# Altium schematic symbol library kmilo17pet-TI_LDO_400_7500.SchLib: 1409 symbols (part 27 of 60)
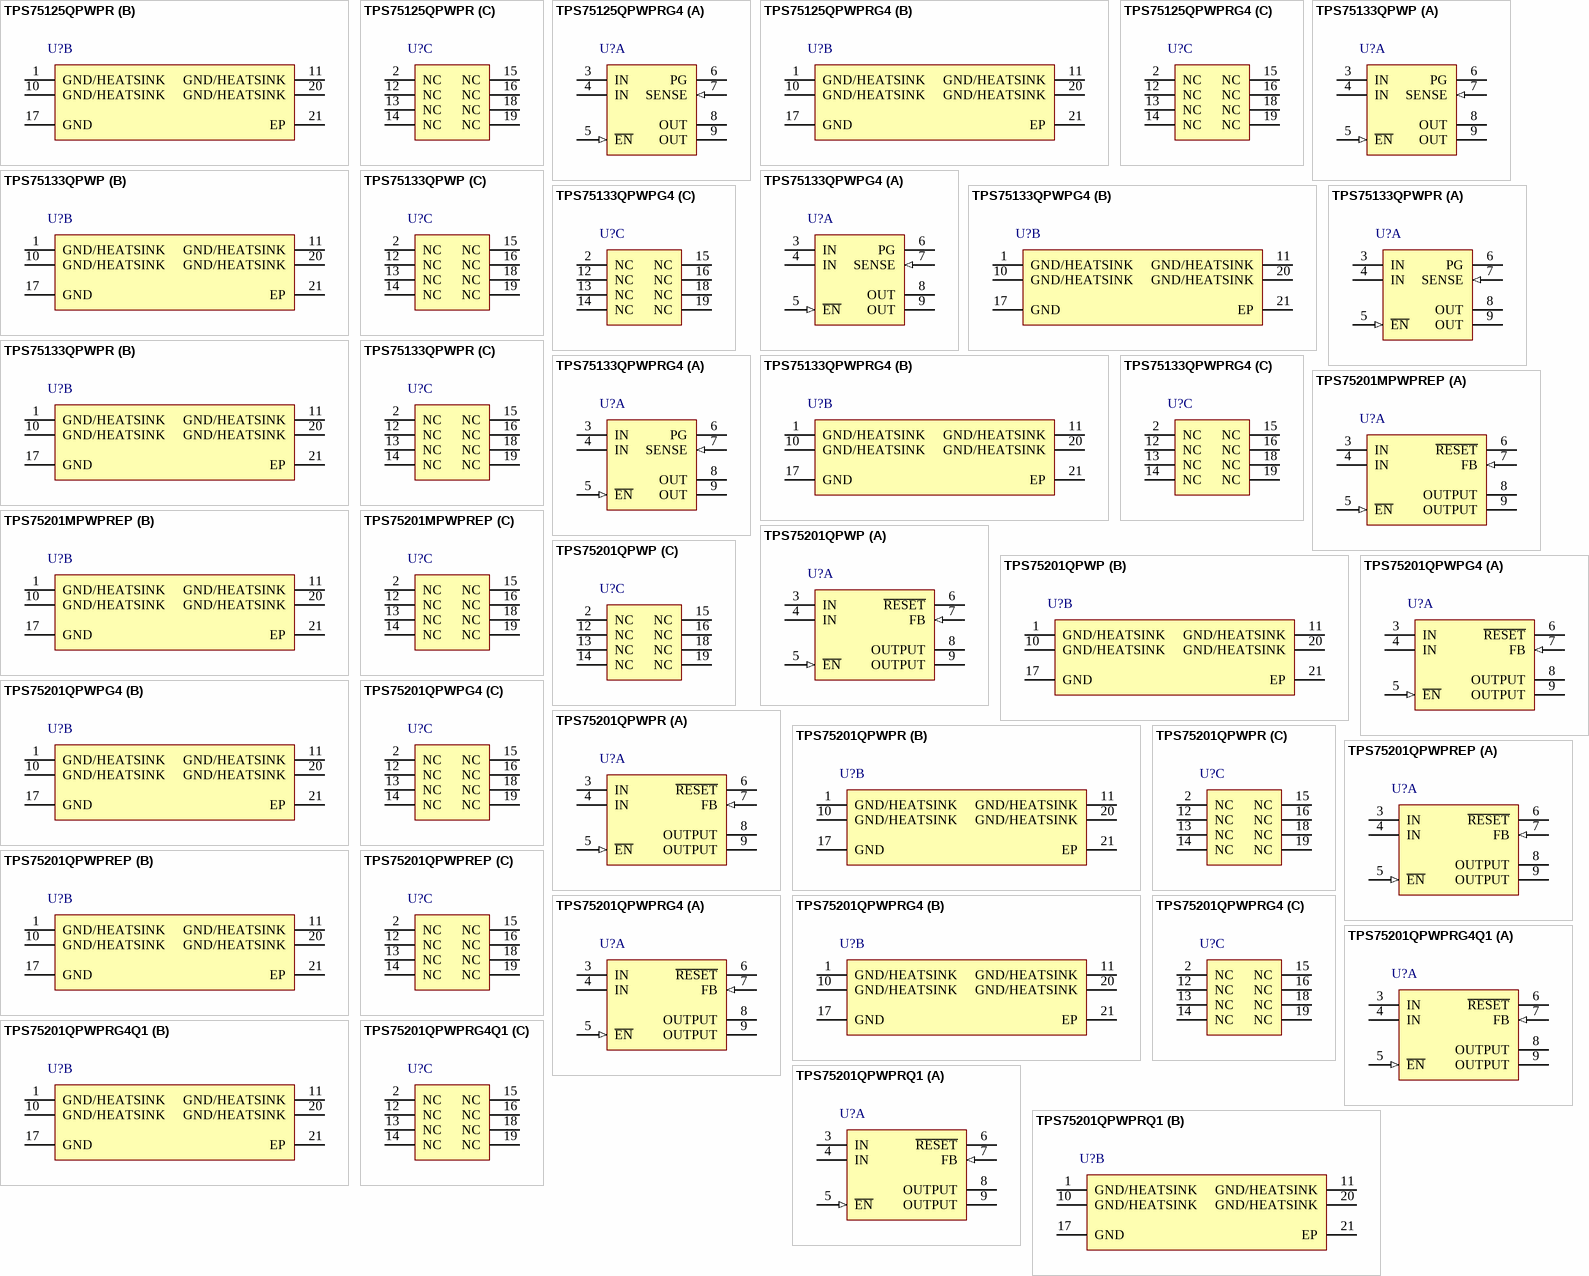
[diagram p76: symbols TPS75125QPWPR to TPS75201QPWPRQ1]

## TPS75201QPWP
designator U?
Single Output Fast Transient Response LDO, 2 A, Adjustable 1.5 to 5 V Output, 2.7 to 5.5 V Input, 20-pin HTSSOP (PWP), -40 to 125 degC, Green (RoHS & no Sb/Br); Manufacturer: Texas Instruments; PartNumber: TPS75201QPWP; Accuracy(%): 2; Iq(Typ)(mA): 0.07; SubFamily: Single Channel LDO; Vdo(Typ)(mV): 210; Vin(Max)(V): 5.5; Vin(Min)(V): 2.7; Vout Adj(Max)(V): 5; Vout Adj(Min)(V): 1.5; DatasheetVersion: SLVS242C; PackageVersion: 4073225-4/1; PackageReference: PWP20-2675X1950TP; PackageDescription: 20-Pin Plastic Small Outline, Body 4.4 x 6.5 mm, Pitch 0.65 mm; Supplier 1: Digi-Key; Supplier Part Number 1: 296-2678-5-ND; Supplier 2: Farnell; Supplier Part Number 2: 1135441; Supplier 3: Newark; Supplier Part Number 3: 93K0914; Supplier 4: Newark; Supplier Part Number 4: 77C0906; Supplier 5: Mouser; Supplier Part Number 5: 595-TPS75201QPWP; Eco-Plan: Green (RoHS & no Sb/Br); Iout(Max)(A): 2; Mounting Technology: Surface Mount; Code_JEDEC: MO-153; ComponentLink1Description: Manufacturer URL; ComponentLink1URL: http://www.ti.com/; ComponentLink2Description: Datasheet; ComponentLink2URL: http://www.ti.com/general/docs/lit/getliterature.tsp?genericPartNumber=TPS75201&fileType=pdf; ComponentLink3Description: Package Specification; ComponentLink3URL: http://www.ti.com/litv/pdf/mhts001g
footprint TI-PWP20-2675X1950TP_N (SOP, 20-Leads, Body 6.5x4.4mm, Pitch 1.27mm, Thermal Pad 2.675x1.95 mm, IPC Medium Density)
footprint TI-PWP20-2675X1950TP_L (SOP, 20-Leads, Body 6.5x4.4mm, Pitch 1.27mm, Thermal Pad 2.675x1.95 mm, IPC High Density)
footprint TI-PWP20-2675X1950TP_M (SOP, 20-Leads, Body 6.5x4.4mm, Pitch 1.27mm, Thermal Pad 2.675x1.95 mm, IPC Low Density)
part A pins: 3 IN (power) "Input voltage", 4 IN (power) "Input voltage", 5 ~{EN} (in) "Enable Input", 6 ~{RESET} (hiz) "R\e\s\e\t\ output", 7 FB (in) "Feedback input voltage for adjustable device", 8 OUTPUT (power) "Regulated output voltage", 9 OUTPUT (power) "Regulated output voltage"
part B pins: 1 GND/HEATSINK (power) "Ground/heatsink", 10 GND/HEATSINK (power) "Ground/heatsink", 11 GND/HEATSINK (power) "Ground/heatsink", 17 GND (power) "Regulator Ground", 20 GND/HEATSINK (power) "Ground/heatsink", 21 EP "Exposed Thermal Pad"
part C pins: 2 NC "Not connected", 12 NC "Not connected", 13 NC "Not connected", 14 NC "Not connected", 15 NC "Not connected", 16 NC "Not connected", 18 NC "Not connected", 19 NC "Not connected"

## TPS75201QPWPG4
designator U?
Single Output Fast Transient Response LDO, 2 A, Adjustable 1.5 to 5 V Output, 2.7 to 5.5 V Input, 20-pin HTSSOP (PWP), -40 to 125 degC, Green (RoHS & no Sb/Br); Manufacturer: Texas Instruments; PartNumber: TPS75201QPWPG4; Accuracy(%): 2; Iq(Typ)(mA): 0.07; SubFamily: Single Channel LDO; Vdo(Typ)(mV): 210; Vin(Max)(V): 5.5; Vin(Min)(V): 2.7; Vout Adj(Max)(V): 5; Vout Adj(Min)(V): 1.5; DatasheetVersion: SLVS242C; PackageVersion: 4073225-4/1; PackageReference: PWP20-2675X1950TP; PackageDescription: 20-Pin Plastic Small Outline, Body 4.4 x 6.5 mm, Pitch 0.65 mm; Supplier 1: Digi-Key; Supplier Part Number 1: TPS75201QPWPG4-ND; Supplier 2: Newark; Supplier Part Number 2: 33K7718; Supplier 3: Mouser; Supplier Part Number 3: 595-TPS75201QPWPG4; Eco-Plan: Green (RoHS & no Sb/Br); Iout(Max)(A): 2; Mounting Technology: Surface Mount; Code_JEDEC: MO-153; ComponentLink1Description: Manufacturer URL; ComponentLink1URL: http://www.ti.com/; ComponentLink2Description: Datasheet; ComponentLink2URL: http://www.ti.com/general/docs/lit/getliterature.tsp?genericPartNumber=TPS75201&fileType=pdf; ComponentLink3Description: Package Specification; ComponentLink3URL: http://www.ti.com/litv/pdf/mhts001g
footprint TI-PWP20-2675X1950TP_N (SOP, 20-Leads, Body 6.5x4.4mm, Pitch 1.27mm, Thermal Pad 2.675x1.95 mm, IPC Medium Density)
footprint TI-PWP20-2675X1950TP_L (SOP, 20-Leads, Body 6.5x4.4mm, Pitch 1.27mm, Thermal Pad 2.675x1.95 mm, IPC High Density)
footprint TI-PWP20-2675X1950TP_M (SOP, 20-Leads, Body 6.5x4.4mm, Pitch 1.27mm, Thermal Pad 2.675x1.95 mm, IPC Low Density)
part A pins: 3 IN (power) "Input voltage", 4 IN (power) "Input voltage", 5 ~{EN} (in) "Enable Input", 6 ~{RESET} (hiz) "R\e\s\e\t\ output", 7 FB (in) "Feedback input voltage for adjustable device", 8 OUTPUT (power) "Regulated output voltage", 9 OUTPUT (power) "Regulated output voltage"
part B pins: 1 GND/HEATSINK (power) "Ground/heatsink", 10 GND/HEATSINK (power) "Ground/heatsink", 11 GND/HEATSINK (power) "Ground/heatsink", 17 GND (power) "Regulator Ground", 20 GND/HEATSINK (power) "Ground/heatsink", 21 EP "Exposed Thermal Pad"
part C pins: 2 NC "Not connected", 12 NC "Not connected", 13 NC "Not connected", 14 NC "Not connected", 15 NC "Not connected", 16 NC "Not connected", 18 NC "Not connected", 19 NC "Not connected"

## TPS75201QPWPR
designator U?
Single Output Fast Transient Response LDO, 2 A, Adjustable 1.5 to 5 V Output, 2.7 to 5.5 V Input, 20-pin HTSSOP (PWP), -40 to 125 degC, Green (RoHS & no Sb/Br); Manufacturer: Texas Instruments; PartNumber: TPS75201QPWPR; Accuracy(%): 2; Iq(Typ)(mA): 0.07; SubFamily: Single Channel LDO; Vdo(Typ)(mV): 210; Vin(Max)(V): 5.5; Vin(Min)(V): 2.7; Vout Adj(Max)(V): 5; Vout Adj(Min)(V): 1.5; DatasheetVersion: SLVS242C; PackageVersion: 4073225-4/1; PackageReference: PWP20-2675X1950TP; PackageDescription: 20-Pin Plastic Small Outline, Body 4.4 x 6.5 mm, Pitch 0.65 mm; Supplier 1: Digi-Key; Supplier Part Number 1: TPS75201QPWPR-ND; Supplier 2: Mouser; Supplier Part Number 2: 595-TPS75201QPWPR; Eco-Plan: Green (RoHS & no Sb/Br); Iout(Max)(A): 2; Mounting Technology: Surface Mount; Code_JEDEC: MO-153; ComponentLink1Description: Manufacturer URL; ComponentLink1URL: http://www.ti.com/; ComponentLink2Description: Datasheet; ComponentLink2URL: http://www.ti.com/general/docs/lit/getliterature.tsp?genericPartNumber=TPS75201&fileType=pdf; ComponentLink3Description: Package Specification; ComponentLink3URL: http://www.ti.com/litv/pdf/mhts001g
footprint TI-PWP20-2675X1950TP_N (SOP, 20-Leads, Body 6.5x4.4mm, Pitch 1.27mm, Thermal Pad 2.675x1.95 mm, IPC Medium Density)
footprint TI-PWP20-2675X1950TP_L (SOP, 20-Leads, Body 6.5x4.4mm, Pitch 1.27mm, Thermal Pad 2.675x1.95 mm, IPC High Density)
footprint TI-PWP20-2675X1950TP_M (SOP, 20-Leads, Body 6.5x4.4mm, Pitch 1.27mm, Thermal Pad 2.675x1.95 mm, IPC Low Density)
part A pins: 3 IN (power) "Input voltage", 4 IN (power) "Input voltage", 5 ~{EN} (in) "Enable Input", 6 ~{RESET} (hiz) "R\e\s\e\t\ output", 7 FB (in) "Feedback input voltage for adjustable device", 8 OUTPUT (power) "Regulated output voltage", 9 OUTPUT (power) "Regulated output voltage"
part B pins: 1 GND/HEATSINK (power) "Ground/heatsink", 10 GND/HEATSINK (power) "Ground/heatsink", 11 GND/HEATSINK (power) "Ground/heatsink", 17 GND (power) "Regulator Ground", 20 GND/HEATSINK (power) "Ground/heatsink", 21 EP "Exposed Thermal Pad"
part C pins: 2 NC "Not connected", 12 NC "Not connected", 13 NC "Not connected", 14 NC "Not connected", 15 NC "Not connected", 16 NC "Not connected", 18 NC "Not connected", 19 NC "Not connected"

## TPS75201QPWPREP
designator U?
Single Output Fast Transient Response LDO, 2 A, Adjustable 1.5 to 5 V Output, 2.7 to 5.5 V Input, 20-pin HTSSOP (PWP), -40 to 125 degC, Green (RoHS & no Sb/Br); Manufacturer: Texas Instruments; PartNumber: TPS75201QPWPREP; Accuracy(%): 2; Iq(Typ)(mA): 0.07; SubFamily: Single Channel LDO; Vdo(Typ)(mV): 210; Vin(Max)(V): 5.5; Vin(Min)(V): 2.7; Vout Adj(Max)(V): 5; Vout Adj(Min)(V): 1.5; DatasheetVersion: SGLS165; PackageVersion: 4073225-4/1; PackageReference: PWP20-2675X1950TP; PackageDescription: 20-Pin Plastic Small Outline, Body 4.4 x 6.5 mm, Pitch 0.65 mm; Supplier 1: Digi-Key; Supplier Part Number 1: 296-22503-2-ND; Supplier 2: Digi-Key; Supplier Part Number 2: 296-22503-1-ND; Supplier 3: Digi-Key; Supplier Part Number 3: 296-22503-6-ND; Supplier 4: Newark; Supplier Part Number 4: 46M1163; Supplier 5: Mouser; Supplier Part Number 5: 595-TPS75201QPWPREP; Eco-Plan: Green (RoHS & no Sb/Br); Iout(Max)(A): 2; Mounting Technology: Surface Mount; Code_JEDEC: MO-153; ComponentLink1Description: Manufacturer URL; ComponentLink1URL: http://www.ti.com/; ComponentLink2Description: Datasheet; ComponentLink2URL: http://www.ti.com/general/docs/lit/getliterature.tsp?genericPartNumber=TPS75201-EP&fileType=pdf; ComponentLink3Description: Package Specification; ComponentLink3URL: http://www.ti.com/litv/pdf/mhts001g
footprint TI-PWP20-2675X1950TP_N (SOP, 20-Leads, Body 6.5x4.4mm, Pitch 1.27mm, Thermal Pad 2.675x1.95 mm, IPC Medium Density)
footprint TI-PWP20-2675X1950TP_L (SOP, 20-Leads, Body 6.5x4.4mm, Pitch 1.27mm, Thermal Pad 2.675x1.95 mm, IPC High Density)
footprint TI-PWP20-2675X1950TP_M (SOP, 20-Leads, Body 6.5x4.4mm, Pitch 1.27mm, Thermal Pad 2.675x1.95 mm, IPC Low Density)
part A pins: 3 IN (power) "Input voltage", 4 IN (power) "Input voltage", 5 ~{EN} (in) "Enable Input", 6 ~{RESET} (hiz) "R\e\s\e\t\ output", 7 FB (in) "Feedback input voltage for adjustable device", 8 OUTPUT (power) "Regulated output voltage", 9 OUTPUT (power) "Regulated output voltage"
part B pins: 1 GND/HEATSINK (power) "Ground/heatsink", 10 GND/HEATSINK (power) "Ground/heatsink", 11 GND/HEATSINK (power) "Ground/heatsink", 17 GND (power) "Regulator Ground", 20 GND/HEATSINK (power) "Ground/heatsink", 21 EP "Exposed Thermal Pad"
part C pins: 2 NC "Not connected", 12 NC "Not connected", 13 NC "Not connected", 14 NC "Not connected", 15 NC "Not connected", 16 NC "Not connected", 18 NC "Not connected", 19 NC "Not connected"

## TPS75201QPWPRG4
designator U?
Single Output Fast Transient Response LDO, 2 A, Adjustable 1.5 to 5 V Output, 2.7 to 5.5 V Input, 20-pin HTSSOP (PWP), -40 to 125 degC, Green (RoHS & no Sb/Br); Manufacturer: Texas Instruments; PartNumber: TPS75201QPWPRG4; Accuracy(%): 2; Iq(Typ)(mA): 0.07; SubFamily: Single Channel LDO; Vdo(Typ)(mV): 210; Vin(Max)(V): 5.5; Vin(Min)(V): 2.7; Vout Adj(Max)(V): 5; Vout Adj(Min)(V): 1.5; DatasheetVersion: SLVS242C; PackageVersion: 4073225-4/1; PackageReference: PWP20-2675X1950TP; PackageDescription: 20-Pin Plastic Small Outline, Body 4.4 x 6.5 mm, Pitch 0.65 mm; Supplier 1: Digi-Key; Supplier Part Number 1: TPS75201QPWPRG4-ND; Supplier 2: Mouser; Supplier Part Number 2: 595-TPS75201QPWPRG4; Eco-Plan: Green (RoHS & no Sb/Br); Iout(Max)(A): 2; Mounting Technology: Surface Mount; Code_JEDEC: MO-153; ComponentLink1Description: Manufacturer URL; ComponentLink1URL: http://www.ti.com/; ComponentLink2Description: Datasheet; ComponentLink2URL: http://www.ti.com/general/docs/lit/getliterature.tsp?genericPartNumber=TPS75201&fileType=pdf; ComponentLink3Description: Package Specification; ComponentLink3URL: http://www.ti.com/litv/pdf/mhts001g
footprint TI-PWP20-2675X1950TP_N (SOP, 20-Leads, Body 6.5x4.4mm, Pitch 1.27mm, Thermal Pad 2.675x1.95 mm, IPC Medium Density)
footprint TI-PWP20-2675X1950TP_L (SOP, 20-Leads, Body 6.5x4.4mm, Pitch 1.27mm, Thermal Pad 2.675x1.95 mm, IPC High Density)
footprint TI-PWP20-2675X1950TP_M (SOP, 20-Leads, Body 6.5x4.4mm, Pitch 1.27mm, Thermal Pad 2.675x1.95 mm, IPC Low Density)
part A pins: 3 IN (power) "Input voltage", 4 IN (power) "Input voltage", 5 ~{EN} (in) "Enable Input", 6 ~{RESET} (hiz) "R\e\s\e\t\ output", 7 FB (in) "Feedback input voltage for adjustable device", 8 OUTPUT (power) "Regulated output voltage", 9 OUTPUT (power) "Regulated output voltage"
part B pins: 1 GND/HEATSINK (power) "Ground/heatsink", 10 GND/HEATSINK (power) "Ground/heatsink", 11 GND/HEATSINK (power) "Ground/heatsink", 17 GND (power) "Regulator Ground", 20 GND/HEATSINK (power) "Ground/heatsink", 21 EP "Exposed Thermal Pad"
part C pins: 2 NC "Not connected", 12 NC "Not connected", 13 NC "Not connected", 14 NC "Not connected", 15 NC "Not connected", 16 NC "Not connected", 18 NC "Not connected", 19 NC "Not connected"

## TPS75201QPWPRG4Q1
designator U?
Single Output Fast Transient Response LDO, 2 A, Adjustable 1.5 to 5 V Output, 2.7 to 5.5 V Input, 20-pin HTSSOP (PWP), -40 to 125 degC, Green (RoHS & no Sb/Br); Manufacturer: Texas Instruments; PartNumber: TPS75201QPWPRG4Q1; Accuracy(%): 2; Iq(Typ)(mA): 0.07; SubFamily: Single Channel LDO; Vdo(Typ)(mV): 210; Vin(Max)(V): 5.5; Vin(Min)(V): 2.7; Vout Adj(Max)(V): 5; Vout Adj(Min)(V): 1.5; DatasheetVersion: SGLS166C; PackageVersion: 4073225-4/1; PackageReference: PWP20-2675X1950TP; PackageDescription: 20-Pin Plastic Small Outline, Body 4.4 x 6.5 mm, Pitch 0.65 mm; Supplier 1: Digi-Key; Supplier Part Number 1: TPS75201QPWPRG4Q1-ND; Supplier 2: Mouser; Supplier Part Number 2: 595-PS75201QPWPRG4Q1; Eco-Plan: Green (RoHS & no Sb/Br); Iout(Max)(A): 2; Mounting Technology: Surface Mount; Code_JEDEC: MO-153; ComponentLink1Description: Manufacturer URL; ComponentLink1URL: http://www.ti.com/; ComponentLink2Description: Datasheet; ComponentLink2URL: http://www.ti.com/general/docs/lit/getliterature.tsp?genericPartNumber=TPS75201-Q1&fileType=pdf; ComponentLink3Description: Package Specification; ComponentLink3URL: http://www.ti.com/litv/pdf/mhts001g
footprint TI-PWP20-2675X1950TP_N (SOP, 20-Leads, Body 6.5x4.4mm, Pitch 1.27mm, Thermal Pad 2.675x1.95 mm, IPC Medium Density)
footprint TI-PWP20-2675X1950TP_L (SOP, 20-Leads, Body 6.5x4.4mm, Pitch 1.27mm, Thermal Pad 2.675x1.95 mm, IPC High Density)
footprint TI-PWP20-2675X1950TP_M (SOP, 20-Leads, Body 6.5x4.4mm, Pitch 1.27mm, Thermal Pad 2.675x1.95 mm, IPC Low Density)
part A pins: 3 IN (power) "Input voltage", 4 IN (power) "Input voltage", 5 ~{EN} (in) "Enable Input", 6 ~{RESET} (hiz) "R\e\s\e\t\ output", 7 FB (in) "Feedback input voltage for adjustable device", 8 OUTPUT (power) "Regulated output voltage", 9 OUTPUT (power) "Regulated output voltage"
part B pins: 1 GND/HEATSINK (power) "Ground/heatsink", 10 GND/HEATSINK (power) "Ground/heatsink", 11 GND/HEATSINK (power) "Ground/heatsink", 17 GND (power) "Regulator Ground", 20 GND/HEATSINK (power) "Ground/heatsink", 21 EP (power) "Exposed Thermal Pad"
part C pins: 2 NC "Not connected", 12 NC "Not connected", 13 NC "Not connected", 14 NC "Not connected", 15 NC "Not connected", 16 NC "Not connected", 18 NC "Not connected", 19 NC "Not connected"

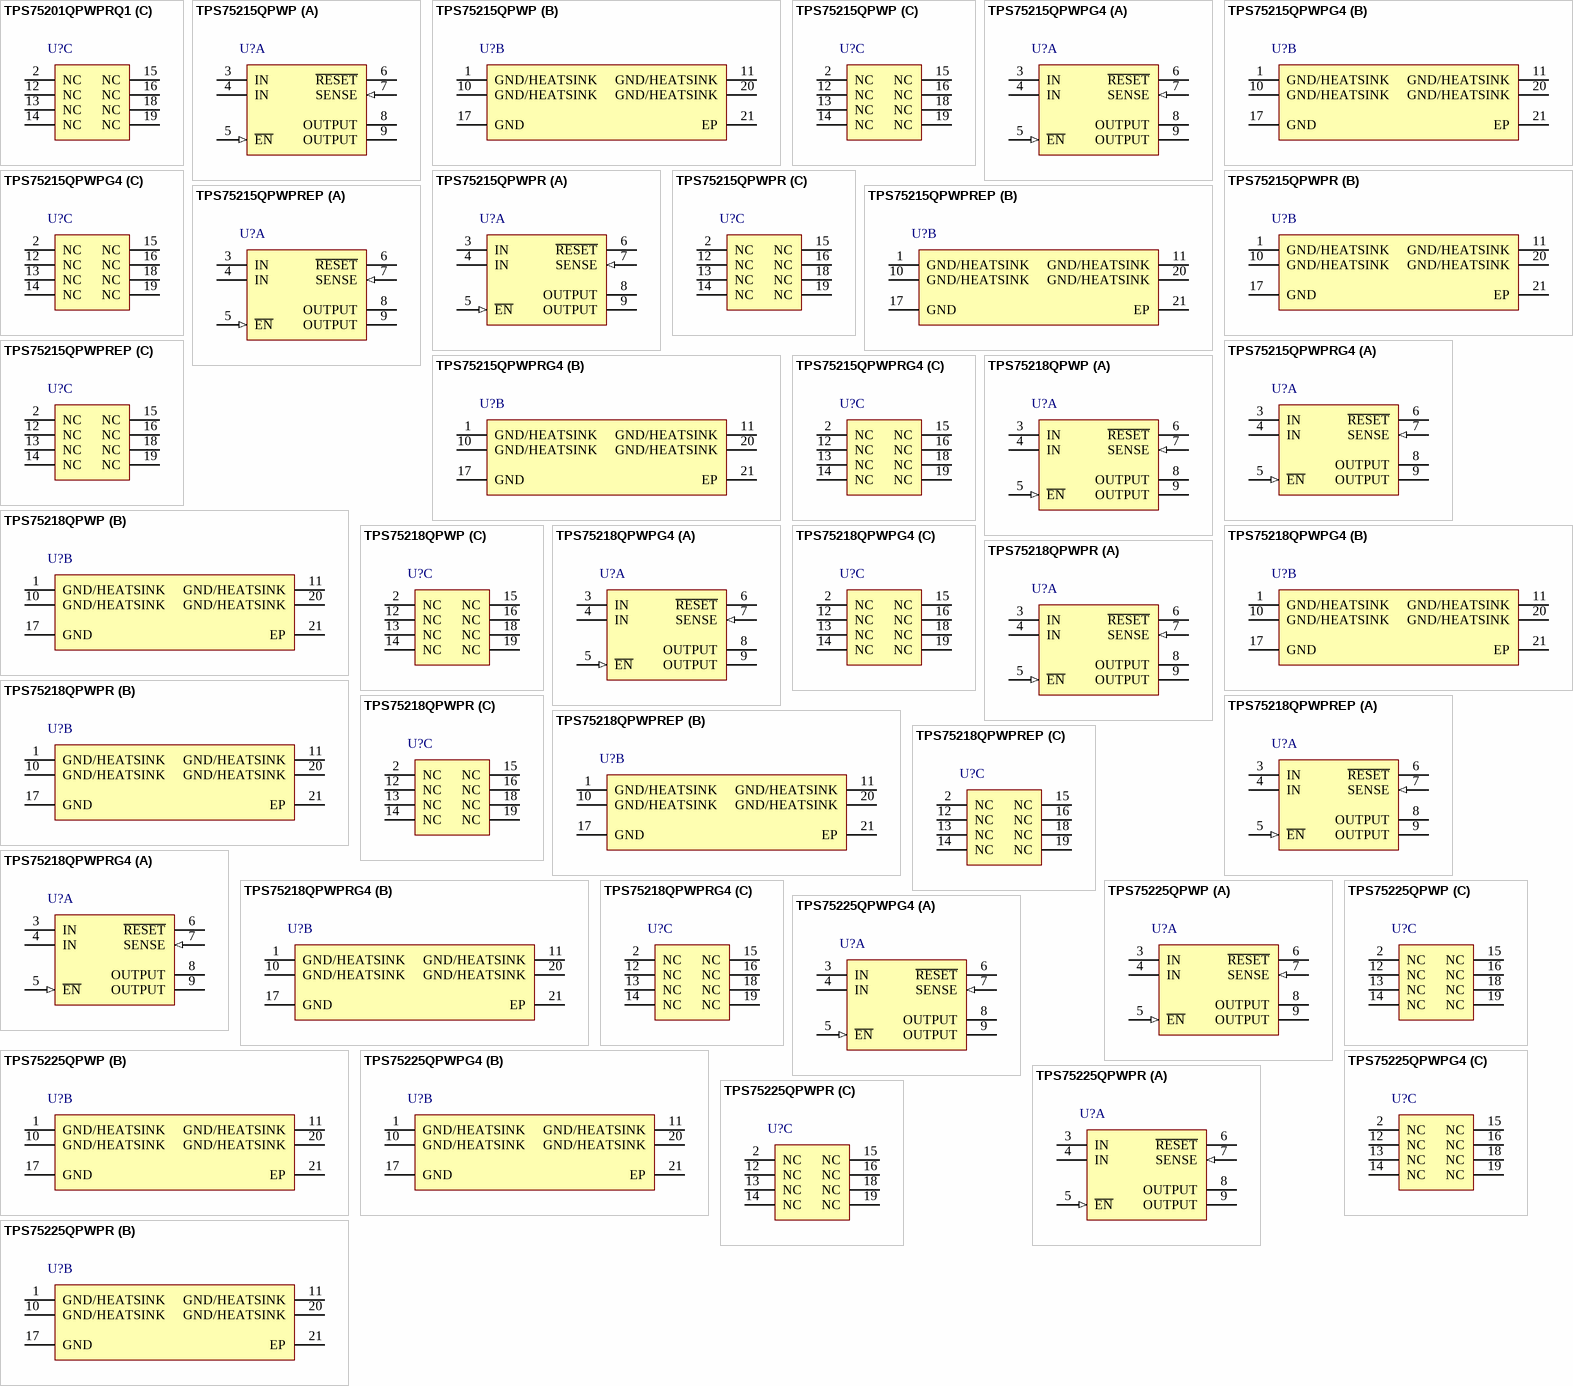
[diagram p19: symbols TPS75201QPWPRQ1 to TPS75225QPWPR]

## TPS75201QPWPRQ1
designator U?
Single Output Fast Transient Response LDO, 2 A, Adjustable 1.5 to 5 V Output, 2.7 to 5.5 V Input, 20-pin HTSSOP (PWP), -40 to 125 degC, Green (RoHS & no Sb/Br); Manufacturer: Texas Instruments; PartNumber: TPS75201QPWPRQ1; Accuracy(%): 2; Iq(Typ)(mA): 0.07; SubFamily: Single Channel LDO; Vdo(Typ)(mV): 210; Vin(Max)(V): 5.5; Vin(Min)(V): 2.7; Vout Adj(Max)(V): 5; Vout Adj(Min)(V): 1.5; DatasheetVersion: SGLS166C; PackageVersion: 4073225-4/1; PackageReference: PWP20-2675X1950TP; PackageDescription: 20-Pin Plastic Small Outline, Body 4.4 x 6.5 mm, Pitch 0.65 mm; Supplier 1: Digi-Key; Supplier Part Number 1: 296-15278-2-ND; Supplier 2: Mouser; Supplier Part Number 2: 595-TPS75201QPWPRQ1; Eco-Plan: Green (RoHS & no Sb/Br); Iout(Max)(A): 2; Mounting Technology: Surface Mount; Code_JEDEC: MO-153; ComponentLink1Description: Manufacturer URL; ComponentLink1URL: http://www.ti.com/; ComponentLink2Description: Datasheet; ComponentLink2URL: http://www.ti.com/general/docs/lit/getliterature.tsp?genericPartNumber=TPS75201-Q1&fileType=pdf; ComponentLink3Description: Package Specification; ComponentLink3URL: http://www.ti.com/litv/pdf/mhts001g
footprint TI-PWP20-2675X1950TP_N (SOP, 20-Leads, Body 6.5x4.4mm, Pitch 1.27mm, Thermal Pad 2.675x1.95 mm, IPC Medium Density)
footprint TI-PWP20-2675X1950TP_L (SOP, 20-Leads, Body 6.5x4.4mm, Pitch 1.27mm, Thermal Pad 2.675x1.95 mm, IPC High Density)
footprint TI-PWP20-2675X1950TP_M (SOP, 20-Leads, Body 6.5x4.4mm, Pitch 1.27mm, Thermal Pad 2.675x1.95 mm, IPC Low Density)
part A pins: 3 IN (power) "Input voltage", 4 IN (power) "Input voltage", 5 ~{EN} (in) "Enable Input", 6 ~{RESET} (hiz) "R\e\s\e\t\ output", 7 FB (in) "Feedback input voltage for adjustable device", 8 OUTPUT (power) "Regulated output voltage", 9 OUTPUT (power) "Regulated output voltage"
part B pins: 1 GND/HEATSINK (power) "Ground/heatsink", 10 GND/HEATSINK (power) "Ground/heatsink", 11 GND/HEATSINK (power) "Ground/heatsink", 17 GND (power) "Regulator Ground", 20 GND/HEATSINK (power) "Ground/heatsink", 21 EP (power) "Exposed Thermal Pad"
part C pins: 2 NC "Not connected", 12 NC "Not connected", 13 NC "Not connected", 14 NC "Not connected", 15 NC "Not connected", 16 NC "Not connected", 18 NC "Not connected", 19 NC "Not connected"

## TPS75215QPWP
designator U?
Single Output Fast Transient Response LDO, 2 A, Fixed 1.5 V Output, 2.7 to 5.5 V Input, 20-pin HTSSOP (PWP), -40 to 125 degC, Green (RoHS & no Sb/Br); Manufacturer: Texas Instruments; PartNumber: TPS75215QPWP; Accuracy(%): 2; Fixed Output Options(V): 1.5; Iq(Typ)(mA): 0.07; SubFamily: Single Channel LDO; Vdo(Typ)(mV): 210; Vin(Max)(V): 5.5; Vin(Min)(V): 2.7; DatasheetVersion: SLVS242C; PackageVersion: 4073225-4/1; PackageReference: PWP20-2675X1950TP; PackageDescription: 20-Pin Plastic Small Outline, Body 4.4 x 6.5 mm, Pitch 0.65 mm; Supplier 1: Digi-Key; Supplier Part Number 1: 296-2679-5-ND; Supplier 2: Farnell; Supplier Part Number 2: 1135443; Supplier 3: Newark; Supplier Part Number 3: 93K0915; Supplier 4: Newark; Supplier Part Number 4: 77C0908; Supplier 5: Mouser; Supplier Part Number 5: 595-TPS75215QPWP; Eco-Plan: Green (RoHS & no Sb/Br); Iout(Max)(A): 2; Vout Adj(Max)(V): 1.5; Vout Adj(Min)(V): 1.5; Mounting Technology: Surface Mount; Code_JEDEC: MO-153; ComponentLink1Description: Manufacturer URL; ComponentLink1URL: http://www.ti.com/; ComponentLink2Description: Datasheet; ComponentLink2URL: http://www.ti.com/general/docs/lit/getliterature.tsp?genericPartNumber=TPS75215&fileType=pdf; ComponentLink3Description: Package Specification; ComponentLink3URL: http://www.ti.com/litv/pdf/mhts001g
footprint TI-PWP20-2675X1950TP_N (SOP, 20-Leads, Body 6.5x4.4mm, Pitch 1.27mm, Thermal Pad 2.675x1.95 mm, IPC Medium Density)
footprint TI-PWP20-2675X1950TP_L (SOP, 20-Leads, Body 6.5x4.4mm, Pitch 1.27mm, Thermal Pad 2.675x1.95 mm, IPC High Density)
footprint TI-PWP20-2675X1950TP_M (SOP, 20-Leads, Body 6.5x4.4mm, Pitch 1.27mm, Thermal Pad 2.675x1.95 mm, IPC Low Density)
part A pins: 3 IN (power) "Input voltage", 4 IN (power) "Input voltage", 5 ~{EN} (in) "Enable Input", 6 ~{RESET} (hiz) "R\e\s\e\t\ output", 7 SENSE (in) "sense input for fixed-voltage option", 8 OUTPUT (power) "Regulated output voltage", 9 OUTPUT (power) "Regulated output voltage"
part B pins: 1 GND/HEATSINK (power) "Ground/heatsink", 10 GND/HEATSINK (power) "Ground/heatsink", 11 GND/HEATSINK (power) "Ground/heatsink", 17 GND (power) "Regulator Ground", 20 GND/HEATSINK (power) "Ground/heatsink", 21 EP "Exposed Thermal Pad"
part C pins: 2 NC "Not connected", 12 NC "Not connected", 13 NC "Not connected", 14 NC "Not connected", 15 NC "Not connected", 16 NC "Not connected", 18 NC "Not connected", 19 NC "Not connected"

## TPS75215QPWPG4
designator U?
Single Output Fast Transient Response LDO, 2 A, Fixed 1.5 V Output, 2.7 to 5.5 V Input, 20-pin HTSSOP (PWP), -40 to 125 degC, Green (RoHS & no Sb/Br); Manufacturer: Texas Instruments; PartNumber: TPS75215QPWPG4; Accuracy(%): 2; Fixed Output Options(V): 1.5; Iq(Typ)(mA): 0.07; SubFamily: Single Channel LDO; Vdo(Typ)(mV): 210; Vin(Max)(V): 5.5; Vin(Min)(V): 2.7; DatasheetVersion: SLVS242C; PackageVersion: 4073225-4/1; PackageReference: PWP20-2675X1950TP; PackageDescription: 20-Pin Plastic Small Outline, Body 4.4 x 6.5 mm, Pitch 0.65 mm; Supplier 1: Digi-Key; Supplier Part Number 1: TPS75215QPWPG4-ND; Supplier 2: Newark; Supplier Part Number 2: 33K7720; Supplier 3: Mouser; Supplier Part Number 3: 595-TPS75215QPWPG4; Eco-Plan: Green (RoHS & no Sb/Br); Iout(Max)(A): 2; Vout Adj(Max)(V): 1.5; Vout Adj(Min)(V): 1.5; Mounting Technology: Surface Mount; Code_JEDEC: MO-153; ComponentLink1Description: Manufacturer URL; ComponentLink1URL: http://www.ti.com/; ComponentLink2Description: Datasheet; ComponentLink2URL: http://www.ti.com/general/docs/lit/getliterature.tsp?genericPartNumber=TPS75215&fileType=pdf; ComponentLink3Description: Package Specification; ComponentLink3URL: http://www.ti.com/litv/pdf/mhts001g
footprint TI-PWP20-2675X1950TP_N (SOP, 20-Leads, Body 6.5x4.4mm, Pitch 1.27mm, Thermal Pad 2.675x1.95 mm, IPC Medium Density)
footprint TI-PWP20-2675X1950TP_L (SOP, 20-Leads, Body 6.5x4.4mm, Pitch 1.27mm, Thermal Pad 2.675x1.95 mm, IPC High Density)
footprint TI-PWP20-2675X1950TP_M (SOP, 20-Leads, Body 6.5x4.4mm, Pitch 1.27mm, Thermal Pad 2.675x1.95 mm, IPC Low Density)
part A pins: 3 IN (power) "Input voltage", 4 IN (power) "Input voltage", 5 ~{EN} (in) "Enable Input", 6 ~{RESET} (hiz) "R\e\s\e\t\ output", 7 SENSE (in) "sense input for fixed-voltage option", 8 OUTPUT (power) "Regulated output voltage", 9 OUTPUT (power) "Regulated output voltage"
part B pins: 1 GND/HEATSINK (power) "Ground/heatsink", 10 GND/HEATSINK (power) "Ground/heatsink", 11 GND/HEATSINK (power) "Ground/heatsink", 17 GND (power) "Regulator Ground", 20 GND/HEATSINK (power) "Ground/heatsink", 21 EP "Exposed Thermal Pad"
part C pins: 2 NC "Not connected", 12 NC "Not connected", 13 NC "Not connected", 14 NC "Not connected", 15 NC "Not connected", 16 NC "Not connected", 18 NC "Not connected", 19 NC "Not connected"

## TPS75215QPWPR
designator U?
Single Output Fast Transient Response LDO, 2 A, Fixed 1.5 V Output, 2.7 to 5.5 V Input, 20-pin HTSSOP (PWP), -40 to 125 degC, Green (RoHS & no Sb/Br); Manufacturer: Texas Instruments; PartNumber: TPS75215QPWPR; Accuracy(%): 2; Fixed Output Options(V): 1.5; Iq(Typ)(mA): 0.07; SubFamily: Single Channel LDO; Vdo(Typ)(mV): 210; Vin(Max)(V): 5.5; Vin(Min)(V): 2.7; DatasheetVersion: SLVS242C; PackageVersion: 4073225-4/1; PackageReference: PWP20-2675X1950TP; PackageDescription: 20-Pin Plastic Small Outline, Body 4.4 x 6.5 mm, Pitch 0.65 mm; Supplier 1: Digi-Key; Supplier Part Number 1: TPS75215QPWPR-ND; Supplier 2: Mouser; Supplier Part Number 2: 595-TPS75215QPWPR; Eco-Plan: Green (RoHS & no Sb/Br); Iout(Max)(A): 2; Vout Adj(Max)(V): 1.5; Vout Adj(Min)(V): 1.5; Mounting Technology: Surface Mount; Code_JEDEC: MO-153; ComponentLink1Description: Manufacturer URL; ComponentLink1URL: http://www.ti.com/; ComponentLink2Description: Datasheet; ComponentLink2URL: http://www.ti.com/general/docs/lit/getliterature.tsp?genericPartNumber=TPS75215&fileType=pdf; ComponentLink3Description: Package Specification; ComponentLink3URL: http://www.ti.com/litv/pdf/mhts001g
footprint TI-PWP20-2675X1950TP_N (SOP, 20-Leads, Body 6.5x4.4mm, Pitch 1.27mm, Thermal Pad 2.675x1.95 mm, IPC Medium Density)
footprint TI-PWP20-2675X1950TP_L (SOP, 20-Leads, Body 6.5x4.4mm, Pitch 1.27mm, Thermal Pad 2.675x1.95 mm, IPC High Density)
footprint TI-PWP20-2675X1950TP_M (SOP, 20-Leads, Body 6.5x4.4mm, Pitch 1.27mm, Thermal Pad 2.675x1.95 mm, IPC Low Density)
part A pins: 3 IN (power) "Input voltage", 4 IN (power) "Input voltage", 5 ~{EN} (in) "Enable Input", 6 ~{RESET} (hiz) "R\e\s\e\t\ output", 7 SENSE (in) "sense input for fixed-voltage option", 8 OUTPUT (power) "Regulated output voltage", 9 OUTPUT (power) "Regulated output voltage"
part B pins: 1 GND/HEATSINK (power) "Ground/heatsink", 10 GND/HEATSINK (power) "Ground/heatsink", 11 GND/HEATSINK (power) "Ground/heatsink", 17 GND (power) "Regulator Ground", 20 GND/HEATSINK (power) "Ground/heatsink", 21 EP "Exposed Thermal Pad"
part C pins: 2 NC "Not connected", 12 NC "Not connected", 13 NC "Not connected", 14 NC "Not connected", 15 NC "Not connected", 16 NC "Not connected", 18 NC "Not connected", 19 NC "Not connected"

## TPS75215QPWPREP
designator U?
Single Output Fast Transient Response LDO, 2 A, Fixed 1.5 V Output, 2.7 to 5.5 V Input, 20-pin HTSSOP (PWP), -40 to 125 degC, Green (RoHS & no Sb/Br); Manufacturer: Texas Instruments; PartNumber: TPS75215QPWPREP; Accuracy(%): 2; Fixed Output Options(V): 1.5; Iq(Typ)(mA): 0.07; SubFamily: Single Channel LDO; Vdo(Typ)(mV): 210; Vin(Max)(V): 5.5; Vin(Min)(V): 2.7; DatasheetVersion: SGLS165; PackageVersion: 4073225-4/1; PackageReference: PWP20-2675X1950TP; PackageDescription: 20-Pin Plastic Small Outline, Body 4.4 x 6.5 mm, Pitch 0.65 mm; Supplier 1: Digi-Key; Supplier Part Number 1: 296-18154-2-ND; Supplier 2: Digi-Key; Supplier Part Number 2: 296-18154-1-ND; Supplier 3: Digi-Key; Supplier Part Number 3: 296-18154-6-ND; Supplier 4: Newark; Supplier Part Number 4: 46M1164; Supplier 5: Mouser; Supplier Part Number 5: 595-TPS75215QPWPREP; Eco-Plan: Green (RoHS & no Sb/Br); Iout(Max)(A): 2; Vout Adj(Max)(V): 1.5; Vout Adj(Min)(V): 1.5; Mounting Technology: Surface Mount; Code_JEDEC: MO-153; ComponentLink1Description: Manufacturer URL; ComponentLink1URL: http://www.ti.com/; ComponentLink2Description: Datasheet; ComponentLink2URL: http://www.ti.com/general/docs/lit/getliterature.tsp?genericPartNumber=TPS75215-EP&fileType=pdf; ComponentLink3Description: Package Specification; ComponentLink3URL: http://www.ti.com/litv/pdf/mhts001g
footprint TI-PWP20-2675X1950TP_N (SOP, 20-Leads, Body 6.5x4.4mm, Pitch 1.27mm, Thermal Pad 2.675x1.95 mm, IPC Medium Density)
footprint TI-PWP20-2675X1950TP_L (SOP, 20-Leads, Body 6.5x4.4mm, Pitch 1.27mm, Thermal Pad 2.675x1.95 mm, IPC High Density)
footprint TI-PWP20-2675X1950TP_M (SOP, 20-Leads, Body 6.5x4.4mm, Pitch 1.27mm, Thermal Pad 2.675x1.95 mm, IPC Low Density)
part A pins: 3 IN (power) "Input voltage", 4 IN (power) "Input voltage", 5 ~{EN} (in) "Enable Input", 6 ~{RESET} (hiz) "R\e\s\e\t\ output", 7 SENSE (in) "sense input for fixed-voltage option", 8 OUTPUT (power) "Regulated output voltage", 9 OUTPUT (power) "Regulated output voltage"
part B pins: 1 GND/HEATSINK (power) "Ground/heatsink", 10 GND/HEATSINK (power) "Ground/heatsink", 11 GND/HEATSINK (power) "Ground/heatsink", 17 GND (power) "Regulator Ground", 20 GND/HEATSINK (power) "Ground/heatsink", 21 EP "Exposed Thermal Pad"
part C pins: 2 NC "Not connected", 12 NC "Not connected", 13 NC "Not connected", 14 NC "Not connected", 15 NC "Not connected", 16 NC "Not connected", 18 NC "Not connected", 19 NC "Not connected"

## TPS75215QPWPRG4
designator U?
Single Output Fast Transient Response LDO, 2 A, Fixed 1.5 V Output, 2.7 to 5.5 V Input, 20-pin HTSSOP (PWP), -40 to 125 degC, Green (RoHS & no Sb/Br); Manufacturer: Texas Instruments; PartNumber: TPS75215QPWPRG4; Accuracy(%): 2; Fixed Output Options(V): 1.5; Iq(Typ)(mA): 0.07; Power Good: TRUE; SubFamily: Single Channel LDO; Vdo(Typ)(mV): 210; Vin(Max)(V): 5.5; Vin(Min)(V): 2.7; DatasheetVersion: SLVS242C; PackageVersion: 4073225-4/1; PackageReference: PWP20-2675X1950TP; PackageDescription: 20-Pin Plastic Small Outline, Body 4.4 x 6.5 mm, Pitch 0.65 mm; Supplier 1: Digi-Key; Supplier Part Number 1: TPS75215QPWPRG4-ND; Supplier 2: Mouser; Supplier Part Number 2: 595-TPS75215QPWPRG4; Eco-Plan: Green (RoHS & no Sb/Br); Iout(Max)(A): 2; Vout Adj(Max)(V): 1.5; Vout Adj(Min)(V): 1.5; Mounting Technology: Surface Mount; Code_JEDEC: MO-153; ComponentLink1Description: Manufacturer URL; ComponentLink1URL: http://www.ti.com/; ComponentLink2Description: Datasheet; ComponentLink2URL: http://www.ti.com/general/docs/lit/getliterature.tsp?genericPartNumber=TPS75215&fileType=pdf; ComponentLink3Description: Package Specification; ComponentLink3URL: http://www.ti.com/litv/pdf/mhts001g
footprint TI-PWP20-2675X1950TP_N (SOP, 20-Leads, Body 6.5x4.4mm, Pitch 1.27mm, Thermal Pad 2.675x1.95 mm, IPC Medium Density)
footprint TI-PWP20-2675X1950TP_L (SOP, 20-Leads, Body 6.5x4.4mm, Pitch 1.27mm, Thermal Pad 2.675x1.95 mm, IPC High Density)
footprint TI-PWP20-2675X1950TP_M (SOP, 20-Leads, Body 6.5x4.4mm, Pitch 1.27mm, Thermal Pad 2.675x1.95 mm, IPC Low Density)
part A pins: 3 IN (power) "Input voltage", 4 IN (power) "Input voltage", 5 ~{EN} (in) "Enable Input", 6 ~{RESET} (hiz) "R\e\s\e\t\ output", 7 SENSE (in) "sense input for fixed-voltage option", 8 OUTPUT (power) "Regulated output voltage", 9 OUTPUT (power) "Regulated output voltage"
part B pins: 1 GND/HEATSINK (power) "Ground/heatsink", 10 GND/HEATSINK (power) "Ground/heatsink", 11 GND/HEATSINK (power) "Ground/heatsink", 17 GND (power) "Regulator Ground", 20 GND/HEATSINK (power) "Ground/heatsink", 21 EP "Exposed Thermal Pad"
part C pins: 2 NC "Not connected", 12 NC "Not connected", 13 NC "Not connected", 14 NC "Not connected", 15 NC "Not connected", 16 NC "Not connected", 18 NC "Not connected", 19 NC "Not connected"

## TPS75218QPWP
designator U?
Single Output Fast Transient Response LDO, 2 A, Fixed 1.8 V Output, 2.7 to 5.5 V Input, 20-pin HTSSOP (PWP), -40 to 125 degC, Green (RoHS & no Sb/Br); Manufacturer: Texas Instruments; PartNumber: TPS75218QPWP; Accuracy(%): 2; Fixed Output Options(V): 1.8; Iq(Typ)(mA): 0.07; SubFamily: Single Channel LDO; Vdo(Typ)(mV): 210; Vin(Max)(V): 5.5; Vin(Min)(V): 2.7; DatasheetVersion: SLVS242C; PackageVersion: 4073225-4/1; PackageReference: PWP20-2675X1950TP; PackageDescription: 20-Pin Plastic Small Outline, Body 4.4 x 6.5 mm, Pitch 0.65 mm; Supplier 1: Digi-Key; Supplier Part Number 1: 296-2680-5-ND; Supplier 2: Newark; Supplier Part Number 2: 77C0910; Supplier 3: Mouser; Supplier Part Number 3: 595-TPS75218QPWP; Eco-Plan: Green (RoHS & no Sb/Br); Iout(Max)(A): 2; Vout Adj(Max)(V): 1.8; Vout Adj(Min)(V): 1.8; Mounting Technology: Surface Mount; Code_JEDEC: MO-153; ComponentLink1Description: Manufacturer URL; ComponentLink1URL: http://www.ti.com/; ComponentLink2Description: Datasheet; ComponentLink2URL: http://www.ti.com/general/docs/lit/getliterature.tsp?genericPartNumber=TPS75218&fileType=pdf; ComponentLink3Description: Package Specification; ComponentLink3URL: http://www.ti.com/litv/pdf/mhts001g
footprint TI-PWP20-2675X1950TP_N (SOP, 20-Leads, Body 6.5x4.4mm, Pitch 1.27mm, Thermal Pad 2.675x1.95 mm, IPC Medium Density)
footprint TI-PWP20-2675X1950TP_L (SOP, 20-Leads, Body 6.5x4.4mm, Pitch 1.27mm, Thermal Pad 2.675x1.95 mm, IPC High Density)
footprint TI-PWP20-2675X1950TP_M (SOP, 20-Leads, Body 6.5x4.4mm, Pitch 1.27mm, Thermal Pad 2.675x1.95 mm, IPC Low Density)
part A pins: 3 IN (power) "Input voltage", 4 IN (power) "Input voltage", 5 ~{EN} (in) "Enable Input", 6 ~{RESET} (hiz) "R\e\s\e\t\ output", 7 SENSE (in) "sense input for fixed-voltage option", 8 OUTPUT (power) "Regulated output voltage", 9 OUTPUT (power) "Regulated output voltage"
part B pins: 1 GND/HEATSINK (power) "Ground/heatsink", 10 GND/HEATSINK (power) "Ground/heatsink", 11 GND/HEATSINK (power) "Ground/heatsink", 17 GND (power) "Regulator Ground", 20 GND/HEATSINK (power) "Ground/heatsink", 21 EP "Exposed Thermal Pad"
part C pins: 2 NC "Not connected", 12 NC "Not connected", 13 NC "Not connected", 14 NC "Not connected", 15 NC "Not connected", 16 NC "Not connected", 18 NC "Not connected", 19 NC "Not connected"

## TPS75218QPWPG4
designator U?
Single Output Fast Transient Response LDO, 2 A, Fixed 1.8 V Output, 2.7 to 5.5 V Input, 20-pin HTSSOP (PWP), -40 to 125 degC, Green (RoHS & no Sb/Br); Manufacturer: Texas Instruments; PartNumber: TPS75218QPWPG4; Accuracy(%): 2; Fixed Output Options(V): 1.8; Iq(Typ)(mA): 0.07; SubFamily: Single Channel LDO; Vdo(Typ)(mV): 210; Vin(Max)(V): 5.5; Vin(Min)(V): 2.7; DatasheetVersion: SLVS242C; PackageVersion: 4073225-4/1; PackageReference: PWP20-2675X1950TP; PackageDescription: 20-Pin Plastic Small Outline, Body 4.4 x 6.5 mm, Pitch 0.65 mm; Supplier 1: Digi-Key; Supplier Part Number 1: TPS75218QPWPG4-ND; Supplier 2: Mouser; Supplier Part Number 2: 595-TPS75218QPWPG4; Eco-Plan: Green (RoHS & no Sb/Br); Iout(Max)(A): 2; Vout Adj(Max)(V): 1.8; Vout Adj(Min)(V): 1.8; Mounting Technology: Surface Mount; Code_JEDEC: MO-153; ComponentLink1Description: Manufacturer URL; ComponentLink1URL: http://www.ti.com/; ComponentLink2Description: Datasheet; ComponentLink2URL: http://www.ti.com/general/docs/lit/getliterature.tsp?genericPartNumber=TPS75218&fileType=pdf; ComponentLink3Description: Package Specification; ComponentLink3URL: http://www.ti.com/litv/pdf/mhts001g
footprint TI-PWP20-2675X1950TP_N (SOP, 20-Leads, Body 6.5x4.4mm, Pitch 1.27mm, Thermal Pad 2.675x1.95 mm, IPC Medium Density)
footprint TI-PWP20-2675X1950TP_L (SOP, 20-Leads, Body 6.5x4.4mm, Pitch 1.27mm, Thermal Pad 2.675x1.95 mm, IPC High Density)
footprint TI-PWP20-2675X1950TP_M (SOP, 20-Leads, Body 6.5x4.4mm, Pitch 1.27mm, Thermal Pad 2.675x1.95 mm, IPC Low Density)
part A pins: 3 IN (power) "Input voltage", 4 IN (power) "Input voltage", 5 ~{EN} (in) "Enable Input", 6 ~{RESET} (hiz) "R\e\s\e\t\ output", 7 SENSE (in) "sense input for fixed-voltage option", 8 OUTPUT (power) "Regulated output voltage", 9 OUTPUT (power) "Regulated output voltage"
part B pins: 1 GND/HEATSINK (power) "Ground/heatsink", 10 GND/HEATSINK (power) "Ground/heatsink", 11 GND/HEATSINK (power) "Ground/heatsink", 17 GND (power) "Regulator Ground", 20 GND/HEATSINK (power) "Ground/heatsink", 21 EP "Exposed Thermal Pad"
part C pins: 2 NC "Not connected", 12 NC "Not connected", 13 NC "Not connected", 14 NC "Not connected", 15 NC "Not connected", 16 NC "Not connected", 18 NC "Not connected", 19 NC "Not connected"

## TPS75218QPWPR
designator U?
Single Output Fast Transient Response LDO, 2 A, Fixed 1.8 V Output, 2.7 to 5.5 V Input, 20-pin HTSSOP (PWP), -40 to 125 degC, Green (RoHS & no Sb/Br); Manufacturer: Texas Instruments; PartNumber: TPS75218QPWPR; Accuracy(%): 2; Fixed Output Options(V): 1.8; Iq(Typ)(mA): 0.07; SubFamily: Single Channel LDO; Vdo(Typ)(mV): 210; Vin(Max)(V): 5.5; Vin(Min)(V): 2.7; DatasheetVersion: SLVS242C; PackageVersion: 4073225-4/1; PackageReference: PWP20-2675X1950TP; PackageDescription: 20-Pin Plastic Small Outline, Body 4.4 x 6.5 mm, Pitch 0.65 mm; Supplier 1: Digi-Key; Supplier Part Number 1: TPS75218QPWPR-ND; Supplier 2: Mouser; Supplier Part Number 2: 595-TPS75218QPWPR; Eco-Plan: Green (RoHS & no Sb/Br); Iout(Max)(A): 2; Vout Adj(Max)(V): 1.8; Vout Adj(Min)(V): 1.8; Mounting Technology: Surface Mount; Code_JEDEC: MO-153; ComponentLink1Description: Manufacturer URL; ComponentLink1URL: http://www.ti.com/; ComponentLink2Description: Datasheet; ComponentLink2URL: http://www.ti.com/general/docs/lit/getliterature.tsp?genericPartNumber=TPS75218&fileType=pdf; ComponentLink3Description: Package Specification; ComponentLink3URL: http://www.ti.com/litv/pdf/mhts001g
footprint TI-PWP20-2675X1950TP_N (SOP, 20-Leads, Body 6.5x4.4mm, Pitch 1.27mm, Thermal Pad 2.675x1.95 mm, IPC Medium Density)
footprint TI-PWP20-2675X1950TP_L (SOP, 20-Leads, Body 6.5x4.4mm, Pitch 1.27mm, Thermal Pad 2.675x1.95 mm, IPC High Density)
footprint TI-PWP20-2675X1950TP_M (SOP, 20-Leads, Body 6.5x4.4mm, Pitch 1.27mm, Thermal Pad 2.675x1.95 mm, IPC Low Density)
part A pins: 3 IN (power) "Input voltage", 4 IN (power) "Input voltage", 5 ~{EN} (in) "Enable Input", 6 ~{RESET} (hiz) "R\e\s\e\t\ output", 7 SENSE (in) "sense input for fixed-voltage option", 8 OUTPUT (power) "Regulated output voltage", 9 OUTPUT (power) "Regulated output voltage"
part B pins: 1 GND/HEATSINK (power) "Ground/heatsink", 10 GND/HEATSINK (power) "Ground/heatsink", 11 GND/HEATSINK (power) "Ground/heatsink", 17 GND (power) "Regulator Ground", 20 GND/HEATSINK (power) "Ground/heatsink", 21 EP "Exposed Thermal Pad"
part C pins: 2 NC "Not connected", 12 NC "Not connected", 13 NC "Not connected", 14 NC "Not connected", 15 NC "Not connected", 16 NC "Not connected", 18 NC "Not connected", 19 NC "Not connected"

## TPS75218QPWPREP
designator U?
Single Output Fast Transient Response LDO, 2 A, Fixed 1.8 V Output, 2.7 to 5.5 V Input, 20-pin HTSSOP (PWP), -40 to 125 degC, Green (RoHS & no Sb/Br); Manufacturer: Texas Instruments; PartNumber: TPS75218QPWPREP; Accuracy(%): 2; Fixed Output Options(V): 1.8; Iq(Typ)(mA): 0.07; SubFamily: Single Channel LDO; Vdo(Typ)(mV): 210; Vin(Max)(V): 5.5; Vin(Min)(V): 2.7; DatasheetVersion: SGLS165; PackageVersion: 4073225-4/1; PackageReference: PWP20-2675X1950TP; PackageDescription: 20-Pin Plastic Small Outline, Body 4.4 x 6.5 mm, Pitch 0.65 mm; Supplier 1: Digi-Key; Supplier Part Number 1: 296-20791-2-ND; Supplier 2: Digi-Key; Supplier Part Number 2: 296-20791-1-ND; Supplier 3: Digi-Key; Supplier Part Number 3: 296-20791-6-ND; Supplier 4: Newark; Supplier Part Number 4: 46M1165; Supplier 5: Mouser; Supplier Part Number 5: 595-TPS75218QPWPREP; Eco-Plan: Green (RoHS & no Sb/Br); Iout(Max)(A): 2; Vout Adj(Max)(V): 1.8; Vout Adj(Min)(V): 1.8; Mounting Technology: Surface Mount; Code_JEDEC: MO-153; ComponentLink1Description: Manufacturer URL; ComponentLink1URL: http://www.ti.com/; ComponentLink2Description: Datasheet; ComponentLink2URL: http://www.ti.com/general/docs/lit/getliterature.tsp?genericPartNumber=TPS75218-EP&fileType=pdf; ComponentLink3Description: Package Specification; ComponentLink3URL: http://www.ti.com/litv/pdf/mhts001g
footprint TI-PWP20-2675X1950TP_N (SOP, 20-Leads, Body 6.5x4.4mm, Pitch 1.27mm, Thermal Pad 2.675x1.95 mm, IPC Medium Density)
footprint TI-PWP20-2675X1950TP_L (SOP, 20-Leads, Body 6.5x4.4mm, Pitch 1.27mm, Thermal Pad 2.675x1.95 mm, IPC High Density)
footprint TI-PWP20-2675X1950TP_M (SOP, 20-Leads, Body 6.5x4.4mm, Pitch 1.27mm, Thermal Pad 2.675x1.95 mm, IPC Low Density)
part A pins: 3 IN (power) "Input voltage", 4 IN (power) "Input voltage", 5 ~{EN} (in) "Enable Input", 6 ~{RESET} (hiz) "R\e\s\e\t\ output", 7 SENSE (in) "sense input for fixed-voltage option", 8 OUTPUT (power) "Regulated output voltage", 9 OUTPUT (power) "Regulated output voltage"
part B pins: 1 GND/HEATSINK (power) "Ground/heatsink", 10 GND/HEATSINK (power) "Ground/heatsink", 11 GND/HEATSINK (power) "Ground/heatsink", 17 GND (power) "Regulator Ground", 20 GND/HEATSINK (power) "Ground/heatsink", 21 EP "Exposed Thermal Pad"
part C pins: 2 NC "Not connected", 12 NC "Not connected", 13 NC "Not connected", 14 NC "Not connected", 15 NC "Not connected", 16 NC "Not connected", 18 NC "Not connected", 19 NC "Not connected"

## TPS75218QPWPRG4
designator U?
Single Output Fast Transient Response LDO, 2 A, Fixed 1.8 V Output, 2.7 to 5.5 V Input, 20-pin HTSSOP (PWP), -40 to 125 degC, Green (RoHS & no Sb/Br); Manufacturer: Texas Instruments; PartNumber: TPS75218QPWPRG4; Accuracy(%): 2; Fixed Output Options(V): 1.8; Iq(Typ)(mA): 0.07; SubFamily: Single Channel LDO; Vdo(Typ)(mV): 210; Vin(Max)(V): 5.5; Vin(Min)(V): 2.7; DatasheetVersion: SLVS242C; PackageVersion: 4073225-4/1; PackageReference: PWP20-2675X1950TP; PackageDescription: 20-Pin Plastic Small Outline, Body 4.4 x 6.5 mm, Pitch 0.65 mm; Supplier 1: Digi-Key; Supplier Part Number 1: TPS75218QPWPRG4-ND; Supplier 2: Mouser; Supplier Part Number 2: 595-TPS75218QPWPRG4; Eco-Plan: Green (RoHS & no Sb/Br); Iout(Max)(A): 2; Vout Adj(Max)(V): 1.8; Vout Adj(Min)(V): 1.8; Mounting Technology: Surface Mount; Code_JEDEC: MO-153; ComponentLink1Description: Manufacturer URL; ComponentLink1URL: http://www.ti.com/; ComponentLink2Description: Datasheet; ComponentLink2URL: http://www.ti.com/general/docs/lit/getliterature.tsp?genericPartNumber=TPS75218&fileType=pdf; ComponentLink3Description: Package Specification; ComponentLink3URL: http://www.ti.com/litv/pdf/mhts001g
footprint TI-PWP20-2675X1950TP_N (SOP, 20-Leads, Body 6.5x4.4mm, Pitch 1.27mm, Thermal Pad 2.675x1.95 mm, IPC Medium Density)
footprint TI-PWP20-2675X1950TP_L (SOP, 20-Leads, Body 6.5x4.4mm, Pitch 1.27mm, Thermal Pad 2.675x1.95 mm, IPC High Density)
footprint TI-PWP20-2675X1950TP_M (SOP, 20-Leads, Body 6.5x4.4mm, Pitch 1.27mm, Thermal Pad 2.675x1.95 mm, IPC Low Density)
part A pins: 3 IN (power) "Input voltage", 4 IN (power) "Input voltage", 5 ~{EN} (in) "Enable Input", 6 ~{RESET} (hiz) "R\e\s\e\t\ output", 7 SENSE (in) "sense input for fixed-voltage option", 8 OUTPUT (power) "Regulated output voltage", 9 OUTPUT (power) "Regulated output voltage"
part B pins: 1 GND/HEATSINK (power) "Ground/heatsink", 10 GND/HEATSINK (power) "Ground/heatsink", 11 GND/HEATSINK (power) "Ground/heatsink", 17 GND (power) "Regulator Ground", 20 GND/HEATSINK (power) "Ground/heatsink", 21 EP "Exposed Thermal Pad"
part C pins: 2 NC "Not connected", 12 NC "Not connected", 13 NC "Not connected", 14 NC "Not connected", 15 NC "Not connected", 16 NC "Not connected", 18 NC "Not connected", 19 NC "Not connected"

## TPS75225QPWP
designator U?
Single Output Fast Transient Response LDO, 2 A, Fixed 2.5 V Output, 2.7 to 5.5 V Input, 20-pin HTSSOP (PWP), -40 to 125 degC, Green (RoHS & no Sb/Br); Manufacturer: Texas Instruments; PartNumber: TPS75225QPWP; Accuracy(%): 2; Fixed Output Options(V): 2.5; Iq(Typ)(mA): 0.07; SubFamily: Single Channel LDO; Vdo(Typ)(mV): 210; Vin(Max)(V): 5.5; Vin(Min)(V): 2.7; DatasheetVersion: SLVS242C; PackageVersion: 4073225-4/1; PackageReference: PWP20-2675X1950TP; PackageDescription: 20-Pin Plastic Small Outline, Body 4.4 x 6.5 mm, Pitch 0.65 mm; Supplier 1: Digi-Key; Supplier Part Number 1: 296-2681-5-ND; Supplier 2: Newark; Supplier Part Number 2: 77C0912; Supplier 3: Mouser; Supplier Part Number 3: 595-TPS75225QPWP; Eco-Plan: Green (RoHS & no Sb/Br); Iout(Max)(A): 2; Vout Adj(Max)(V): 2.5; Vout Adj(Min)(V): 2.5; Mounting Technology: Surface Mount; Code_JEDEC: MO-153; ComponentLink1Description: Manufacturer URL; ComponentLink1URL: http://www.ti.com/; ComponentLink2Description: Datasheet; ComponentLink2URL: http://www.ti.com/general/docs/lit/getliterature.tsp?genericPartNumber=TPS75225&fileType=pdf; ComponentLink3Description: Package Specification; ComponentLink3URL: http://www.ti.com/litv/pdf/mhts001g
footprint TI-PWP20-2675X1950TP_N (SOP, 20-Leads, Body 6.5x4.4mm, Pitch 1.27mm, Thermal Pad 2.675x1.95 mm, IPC Medium Density)
footprint TI-PWP20-2675X1950TP_L (SOP, 20-Leads, Body 6.5x4.4mm, Pitch 1.27mm, Thermal Pad 2.675x1.95 mm, IPC High Density)
footprint TI-PWP20-2675X1950TP_M (SOP, 20-Leads, Body 6.5x4.4mm, Pitch 1.27mm, Thermal Pad 2.675x1.95 mm, IPC Low Density)
part A pins: 3 IN (power) "Input voltage", 4 IN (power) "Input voltage", 5 ~{EN} (in) "Enable Input", 6 ~{RESET} (hiz) "R\e\s\e\t\ output", 7 SENSE (in) "sense input for fixed-voltage option", 8 OUTPUT (power) "Regulated output voltage", 9 OUTPUT (power) "Regulated output voltage"
part B pins: 1 GND/HEATSINK (power) "Ground/heatsink", 10 GND/HEATSINK (power) "Ground/heatsink", 11 GND/HEATSINK (power) "Ground/heatsink", 17 GND (power) "Regulator Ground", 20 GND/HEATSINK (power) "Ground/heatsink", 21 EP "Exposed Thermal Pad"
part C pins: 2 NC "Not connected", 12 NC "Not connected", 13 NC "Not connected", 14 NC "Not connected", 15 NC "Not connected", 16 NC "Not connected", 18 NC "Not connected", 19 NC "Not connected"

## TPS75225QPWPG4
designator U?
Single Output Fast Transient Response LDO, 2 A, Fixed 2.5 V Output, 2.7 to 5.5 V Input, 20-pin HTSSOP (PWP), -40 to 125 degC, Green (RoHS & no Sb/Br); Manufacturer: Texas Instruments; PartNumber: TPS75225QPWPG4; Accuracy(%): 2; Fixed Output Options(V): 2.5; Iq(Typ)(mA): 0.07; SubFamily: Single Channel LDO; Vdo(Typ)(mV): 210; Vin(Max)(V): 5.5; Vin(Min)(V): 2.7; DatasheetVersion: SLVS242C; PackageVersion: 4073225-4/1; PackageReference: PWP20-2675X1950TP; PackageDescription: 20-Pin Plastic Small Outline, Body 4.4 x 6.5 mm, Pitch 0.65 mm; Supplier 1: Digi-Key; Supplier Part Number 1: TPS75225QPWPG4-ND; Supplier 2: Mouser; Supplier Part Number 2: 595-TPS75225QPWPG4; Eco-Plan: Green (RoHS & no Sb/Br); Iout(Max)(A): 2; Vout Adj(Max)(V): 2.5; Vout Adj(Min)(V): 2.5; Mounting Technology: Surface Mount; Code_JEDEC: MO-153; ComponentLink1Description: Manufacturer URL; ComponentLink1URL: http://www.ti.com/; ComponentLink2Description: Datasheet; ComponentLink2URL: http://www.ti.com/general/docs/lit/getliterature.tsp?genericPartNumber=TPS75225&fileType=pdf; ComponentLink3Description: Package Specification; ComponentLink3URL: http://www.ti.com/litv/pdf/mhts001g
footprint TI-PWP20-2675X1950TP_N (SOP, 20-Leads, Body 6.5x4.4mm, Pitch 1.27mm, Thermal Pad 2.675x1.95 mm, IPC Medium Density)
footprint TI-PWP20-2675X1950TP_L (SOP, 20-Leads, Body 6.5x4.4mm, Pitch 1.27mm, Thermal Pad 2.675x1.95 mm, IPC High Density)
footprint TI-PWP20-2675X1950TP_M (SOP, 20-Leads, Body 6.5x4.4mm, Pitch 1.27mm, Thermal Pad 2.675x1.95 mm, IPC Low Density)
part A pins: 3 IN (power) "Input voltage", 4 IN (power) "Input voltage", 5 ~{EN} (in) "Enable Input", 6 ~{RESET} (hiz) "R\e\s\e\t\ output", 7 SENSE (in) "sense input for fixed-voltage option", 8 OUTPUT (power) "Regulated output voltage", 9 OUTPUT (power) "Regulated output voltage"
part B pins: 1 GND/HEATSINK (power) "Ground/heatsink", 10 GND/HEATSINK (power) "Ground/heatsink", 11 GND/HEATSINK (power) "Ground/heatsink", 17 GND (power) "Regulator Ground", 20 GND/HEATSINK (power) "Ground/heatsink", 21 EP "Exposed Thermal Pad"
part C pins: 2 NC "Not connected", 12 NC "Not connected", 13 NC "Not connected", 14 NC "Not connected", 15 NC "Not connected", 16 NC "Not connected", 18 NC "Not connected", 19 NC "Not connected"

## TPS75225QPWPR
designator U?
Single Output Fast Transient Response LDO, 2 A, Fixed 2.5 V Output, 2.7 to 5.5 V Input, 20-pin HTSSOP (PWP), -40 to 125 degC, Green (RoHS & no Sb/Br); Manufacturer: Texas Instruments; PartNumber: TPS75225QPWPR; Accuracy(%): 2; Fixed Output Options(V): 2.5; Iq(Typ)(mA): 0.07; SubFamily: Single Channel LDO; Vdo(Typ)(mV): 210; Vin(Max)(V): 5.5; Vin(Min)(V): 2.7; DatasheetVersion: SLVS242C; PackageVersion: 4073225-4/1; PackageReference: PWP20-2675X1950TP; PackageDescription: 20-Pin Plastic Small Outline, Body 4.4 x 6.5 mm, Pitch 0.65 mm; Supplier 1: Digi-Key; Supplier Part Number 1: TPS75225QPWPR-ND; Supplier 2: Mouser; Supplier Part Number 2: 595-TPS75225QPWPR; Eco-Plan: Green (RoHS & no Sb/Br); Iout(Max)(A): 2; Vout Adj(Max)(V): 2.5; Vout Adj(Min)(V): 2.5; Mounting Technology: Surface Mount; Code_JEDEC: MO-153; ComponentLink1Description: Manufacturer URL; ComponentLink1URL: http://www.ti.com/; ComponentLink2Description: Datasheet; ComponentLink2URL: http://www.ti.com/general/docs/lit/getliterature.tsp?genericPartNumber=TPS75225&fileType=pdf; ComponentLink3Description: Package Specification; ComponentLink3URL: http://www.ti.com/litv/pdf/mhts001g
footprint TI-PWP20-2675X1950TP_N (SOP, 20-Leads, Body 6.5x4.4mm, Pitch 1.27mm, Thermal Pad 2.675x1.95 mm, IPC Medium Density)
footprint TI-PWP20-2675X1950TP_L (SOP, 20-Leads, Body 6.5x4.4mm, Pitch 1.27mm, Thermal Pad 2.675x1.95 mm, IPC High Density)
footprint TI-PWP20-2675X1950TP_M (SOP, 20-Leads, Body 6.5x4.4mm, Pitch 1.27mm, Thermal Pad 2.675x1.95 mm, IPC Low Density)
part A pins: 3 IN (power) "Input voltage", 4 IN (power) "Input voltage", 5 ~{EN} (in) "Enable Input", 6 ~{RESET} (hiz) "R\e\s\e\t\ output", 7 SENSE (in) "sense input for fixed-voltage option", 8 OUTPUT (power) "Regulated output voltage", 9 OUTPUT (power) "Regulated output voltage"
part B pins: 1 GND/HEATSINK (power) "Ground/heatsink", 10 GND/HEATSINK (power) "Ground/heatsink", 11 GND/HEATSINK (power) "Ground/heatsink", 17 GND (power) "Regulator Ground", 20 GND/HEATSINK (power) "Ground/heatsink", 21 EP "Exposed Thermal Pad"
part C pins: 2 NC "Not connected", 12 NC "Not connected", 13 NC "Not connected", 14 NC "Not connected", 15 NC "Not connected", 16 NC "Not connected", 18 NC "Not connected", 19 NC "Not connected"

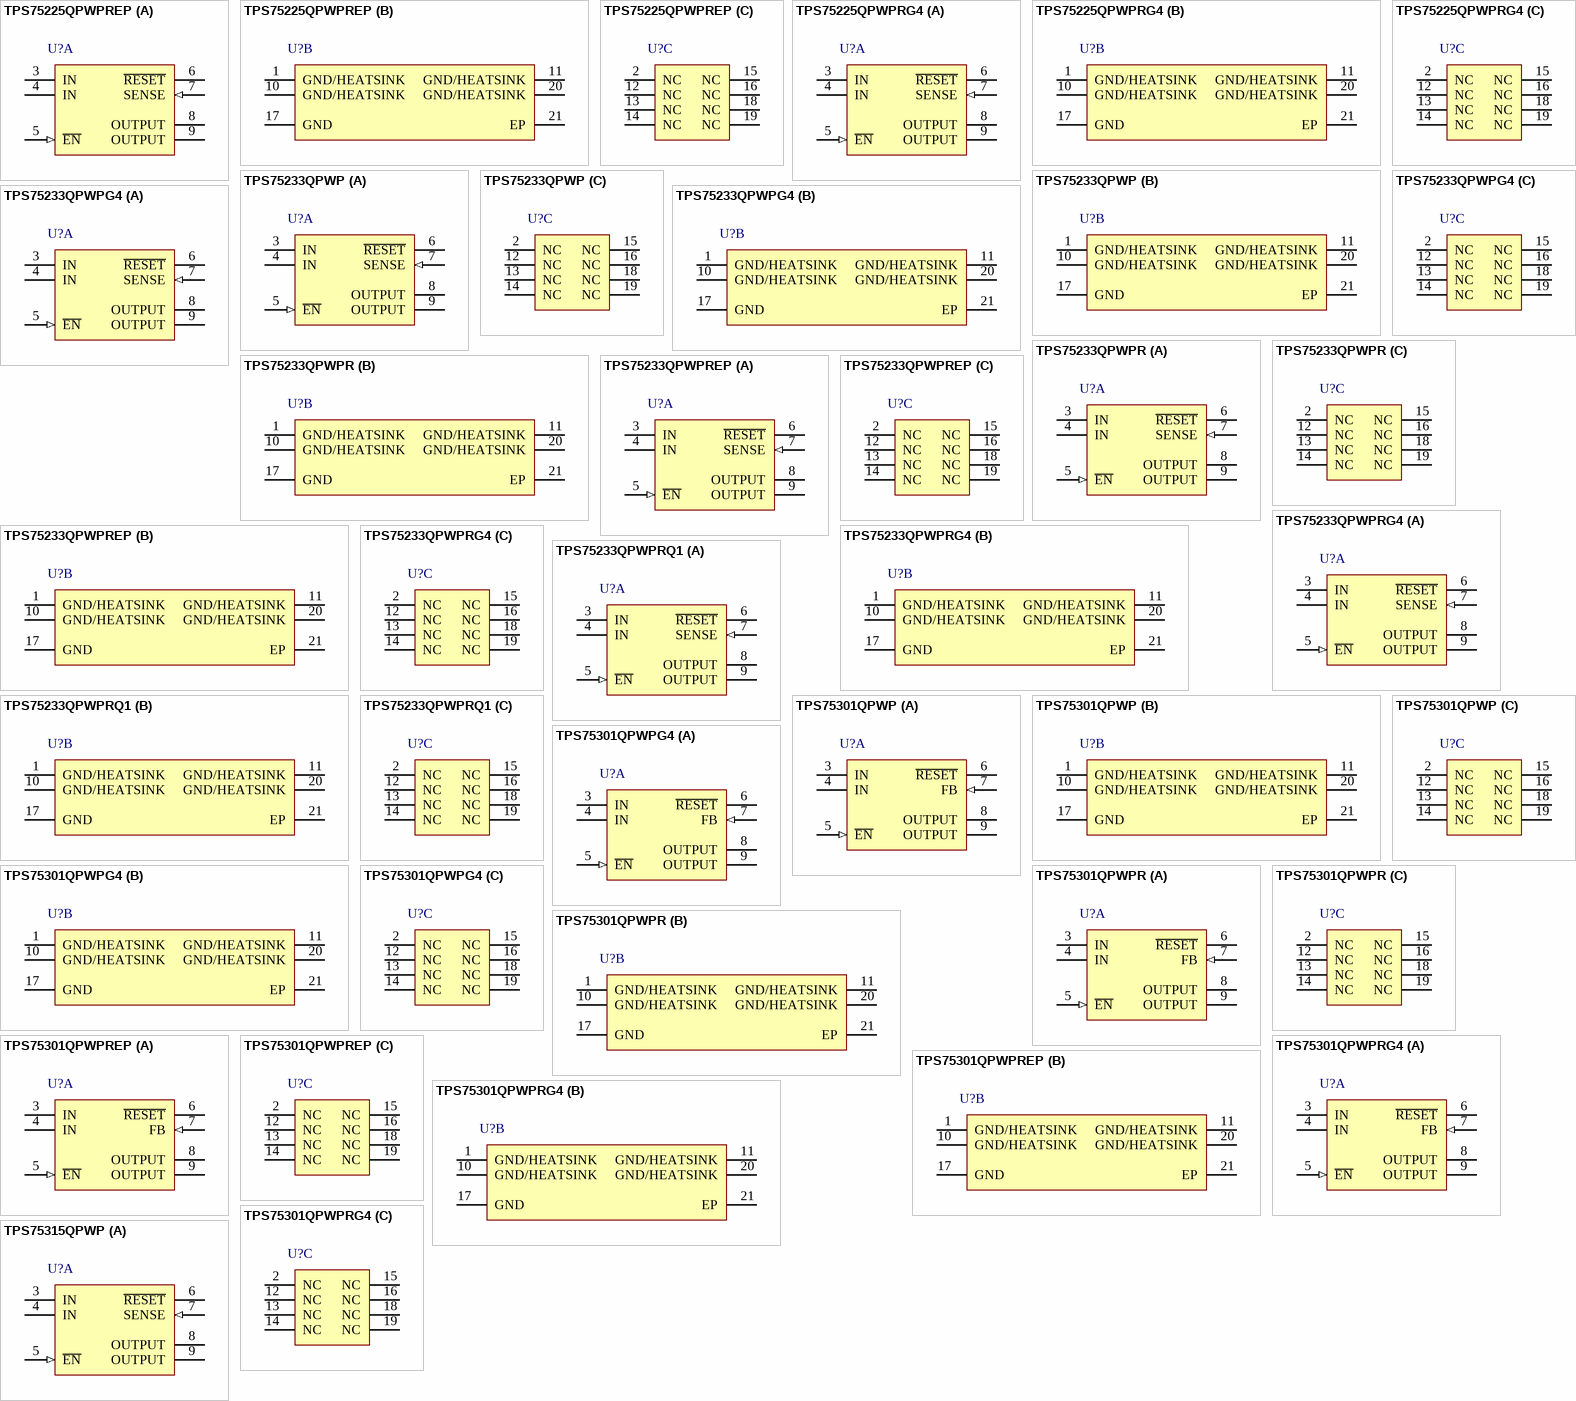
[diagram p20: symbols TPS75225QPWPREP to TPS75315QPWP]

## TPS75225QPWPREP
designator U?
Single Output Fast Transient Response LDO, 2 A, Fixed 2.5 V Output, 2.7 to 5.5 V Input, 20-pin HTSSOP (PWP), -40 to 125 degC, Green (RoHS & no Sb/Br); Manufacturer: Texas Instruments; PartNumber: TPS75225QPWPREP; Accuracy(%): 2; Fixed Output Options(V): 2.5; Iq(Typ)(mA): 0.07; SubFamily: Single Channel LDO; Vdo(Typ)(mV): 210; Vin(Max)(V): 5.5; Vin(Min)(V): 2.7; DatasheetVersion: SGLS165; PackageVersion: 4073225-4/1; PackageReference: PWP20-2675X1950TP; PackageDescription: 20-Pin Plastic Small Outline, Body 4.4 x 6.5 mm, Pitch 0.65 mm; Supplier 1: Digi-Key; Supplier Part Number 1: 296-22504-2-ND; Supplier 2: Digi-Key; Supplier Part Number 2: 296-22504-1-ND; Supplier 3: Digi-Key; Supplier Part Number 3: 296-22504-6-ND; Supplier 4: Newark; Supplier Part Number 4: 46M1166; Supplier 5: Mouser; Supplier Part Number 5: 595-TPS75225QPWPREP; Eco-Plan: Green (RoHS & no Sb/Br); Iout(Max)(A): 2; Vout Adj(Max)(V): 2.5; Vout Adj(Min)(V): 2.5; Mounting Technology: Surface Mount; Code_JEDEC: MO-153; ComponentLink1Description: Manufacturer URL; ComponentLink1URL: http://www.ti.com/; ComponentLink2Description: Datasheet; ComponentLink2URL: http://www.ti.com/general/docs/lit/getliterature.tsp?genericPartNumber=TPS75225-EP&fileType=pdf; ComponentLink3Description: Package Specification; ComponentLink3URL: http://www.ti.com/litv/pdf/mhts001g
footprint TI-PWP20-2675X1950TP_N (SOP, 20-Leads, Body 6.5x4.4mm, Pitch 1.27mm, Thermal Pad 2.675x1.95 mm, IPC Medium Density)
footprint TI-PWP20-2675X1950TP_L (SOP, 20-Leads, Body 6.5x4.4mm, Pitch 1.27mm, Thermal Pad 2.675x1.95 mm, IPC High Density)
footprint TI-PWP20-2675X1950TP_M (SOP, 20-Leads, Body 6.5x4.4mm, Pitch 1.27mm, Thermal Pad 2.675x1.95 mm, IPC Low Density)
part A pins: 3 IN (power) "Input voltage", 4 IN (power) "Input voltage", 5 ~{EN} (in) "Enable Input", 6 ~{RESET} (hiz) "R\e\s\e\t\ output", 7 SENSE (in) "sense input for fixed-voltage option", 8 OUTPUT (power) "Regulated output voltage", 9 OUTPUT (power) "Regulated output voltage"
part B pins: 1 GND/HEATSINK (power) "Ground/heatsink", 10 GND/HEATSINK (power) "Ground/heatsink", 11 GND/HEATSINK (power) "Ground/heatsink", 17 GND (power) "Regulator Ground", 20 GND/HEATSINK (power) "Ground/heatsink", 21 EP "Exposed Thermal Pad"
part C pins: 2 NC "Not connected", 12 NC "Not connected", 13 NC "Not connected", 14 NC "Not connected", 15 NC "Not connected", 16 NC "Not connected", 18 NC "Not connected", 19 NC "Not connected"